# EAGLE library part 4053 (library GM cassette faker)
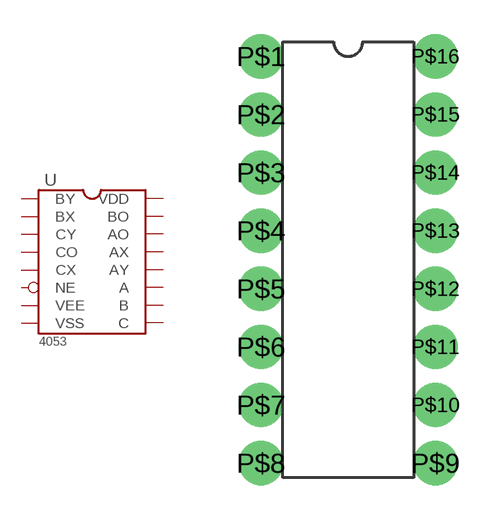
[diagram p1: symbol with the pads of DIP16; footprint DIP16]

Designator prefix U

## 4053  [DIP16]
P$1  BY
P$2  BX
P$3  CY
P$4  CO
P$5  CX
P$6  NE
P$7  VEE
P$8  VSS
P$9  C
P$10  B
P$11  A
P$12  AY
P$13  AX
P$14  AO
P$15  BO
P$16  VDD

## Footprint DIP16 (pad centres in mm)
drill 1 pad 1.93: P$1 -3.81,8.89; P$2 -3.81,6.35; P$3 -3.81,3.81; P$4 -3.81,1.27; P$5 -3.81,-1.27; P$6 -3.81,-3.81; P$7 -3.81,-6.35; P$8 -3.81,-8.89; P$9 3.81,-8.89; P$10 3.81,-6.35; P$11 3.81,-3.81; P$12 3.81,-1.27; P$13 3.81,1.27; P$14 3.81,3.81; P$15 3.81,6.35; P$16 3.81,8.89